# EAGLE library part DA05S (library switch-dil)
DIL/CODE SWITCH
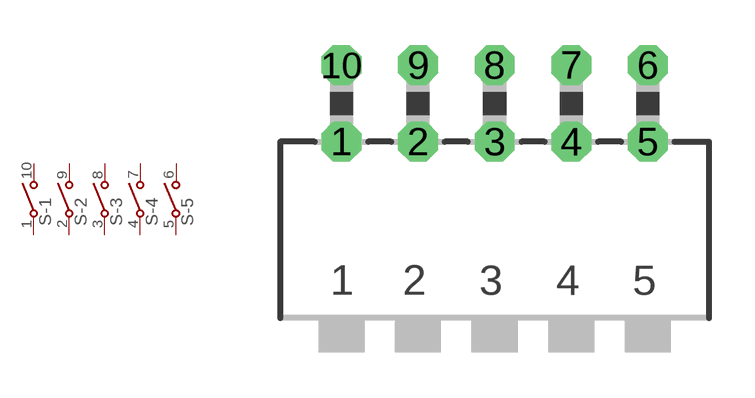
[diagram p83: symbol with the pads of DA-05; footprint DA-05]

Designator prefix S; gates -1=S -2=S -3=S -4=S -5=S

## DA05S  [DA-05]
1  -1:1  pas
2  -2:1  pas
3  -3:1  pas
4  -4:1  pas
5  -5:1  pas
6  -5:2  pas
7  -4:2  pas
8  -3:2  pas
9  -2:2  pas
10  -1:2  pas

## Footprint DA-05 (pad centres in mm)
DIL/CODE SWITCH Mors distributor Buerklin, 17G586
drill 0.813 octagon: 1 -5.08,-1.27; 2 -2.54,-1.27; 3 0,-1.27; 4 2.54,-1.27; 5 5.08,-1.27; 6 5.08,1.27; 7 2.54,1.27; 8 0,1.27; 9 -2.54,1.27; 10 -5.08,1.27